# Altium footprint library miniquad_713_pcblib.PcbLib: 5 footprints
Each footprint in its own frame and in the unit in brackets; x right, y up, seen from the top. Pads: shape width x height; smd on the part's side, far side on the other; paste and mask are expansions set on the pad; w line width, h text height; cw(c..) or ccw(c..) is an arc to the next point about the centre after c.
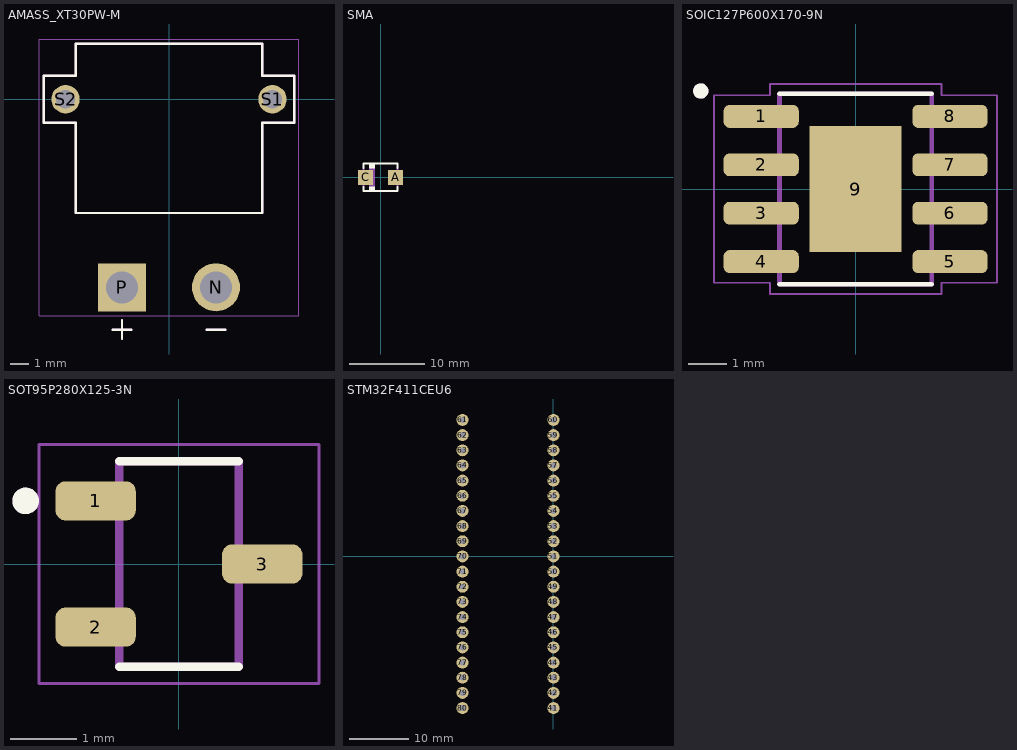
[diagram p0: the footprints below, top view; thin cyan lines are the x and y axes]

## AMASS_XT30PW-M [mm]
height 5
pads (4):
  round 2.55 hole 1.7: N(2.5,-10)
  rect 2.55x2.55 / inner round 2.55 / far side rect 2.55x2.55 hole 1.7: P(-2.5,-10)
  round 1.508 hole 1: S1(5.5,0) S2(-5.5,0)
Top Overlay:
  lines w0.127: -3,-12.25 -2,-12.25 ; -2.5,-12.75 -2.5,-11.75 ; 2,-12.25 3,-12.25 ; -6.65,-1.25 -6.65,1.25 -4.95,1.25 -4.95,2.95 4.95,2.95 4.95,1.25 6.65,1.25 6.65,-1.25 4.95,-1.25 4.95,-6.05 -4.95,-6.05 -4.95,-1.25 -6.65,-1.25
Mechanical 13:
  lines w0.127: -3,-12.25 -2,-12.25 ; -2.5,-12.75 -2.5,-11.75 ; 2,-12.25 3,-12.25 ; -6.65,-1.25 -6.65,1.25 -4.95,1.25 -4.95,2.95 4.95,2.95 4.95,1.25 6.65,1.25 6.65,-1.25 4.95,-1.25 4.95,-6.05 -4.95,-6.05 -4.95,-1.25 -6.65,-1.25
Mechanical 15:
  lines w0.05: -6.9,-11.525 6.9,-11.525 6.9,3.2 -6.9,3.2 -6.9,-11.525
3D body "step_temp.STEP": height 5, standoff -2, extent -6.65,-11 6.65,2.95

## SMA [mm]
pads (2):
  rect 2x2 smd: A(2,0) C(-2,0)
Top Overlay:
  region: -0.75,1.25 -1.5,1.25 -1.5,1.75 -0.75,1.75
  region: -0.75,-1.75 -1.5,-1.75 -1.5,-1.25 -0.75,-1.25
  lines w0.254: -2.25,-1.25 -2.25,-1.825 2.25,-1.825 ; -2.25,1.25 -2.25,1.825 2.25,1.825 2.25,1.25 ; 2.25,-1.839 cw(c19.548,-1.538) 2.25,-1.236
Mechanical 13:
  region: 2.8,-0.825 2.38,-0.825 2.38,0.8 2.8,0.8
  region: -2.38,-0.8 -2.8,-0.8 -2.8,0.8 -2.38,0.8
  region: -0.75,-1.75 -1.5,-1.75 -1.5,1.75 -0.75,1.75
  lines w0.254: -2.25,-1.25 -2.25,1.25 ; 2.25,-1.25 2.25,1.25
3D body "step_temp.STEP": height 2.4, standoff 0, extent -2.598,-1.302 2.598,1.302

## SOIC127P600X170-9N [mm]
pads (9):
  rrect50% 1.97x0.6 smd: 1(-2.475,1.905) 2(-2.475,0.635) 3(-2.475,-0.635) 4(-2.475,-1.905) 5(2.475,-1.905) 6(2.475,-0.635) 7(2.475,0.635) 8(2.475,1.905)
  rect 2.41x3.3 smd paste-3: 9(0,0)
Top Overlay:
  circle w0.2: c-4.06,2.57 r0.1
  lines w0.127: -2,-2.5 2,-2.5 ; -2,2.5 2,2.5
Top Paste:
  region: 0.935,-1.375 0.135,-1.375 0.135,-0.135 0.935,-0.135
  region: -0.135,0.135 -0.935,0.135 -0.935,1.375 -0.135,1.375
  region: -0.135,-1.375 -0.935,-1.375 -0.935,-0.135 -0.135,-0.135
  region: 0.935,0.135 0.135,0.135 0.135,1.375 0.935,1.375
Mechanical 13:
  circle w0.2: c-4.06,2.57 r0.1
  lines w0.127: -2,-2.5 2,-2.5 2,2.5 -2,2.5 -2,-2.5
Mechanical 15:
  lines w0.05: -3.71,-2.46 -3.71,2.46 -2.25,2.46 -2.25,2.75 2.25,2.75 2.25,2.46 3.71,2.46 3.71,-2.46 2.25,-2.46 2.25,-2.75 -2.25,-2.75 -2.25,-2.46 -3.71,-2.46
3D body "step_temp.STEP": height 1.7, standoff 0, extent -2.451,-2.997 2.451,2.997

## SOT95P280X125-3N [mm]
pads (3):
  rrect50% 1.21x0.59 smd: 1(-1.255,0.95) 2(-1.255,-0.95) 3(1.255,0)
Top Overlay:
  circle w0.2: c-2.31,0.95 r0.1
  lines w0.127: -0.9,-1.55 0.9,-1.55 ; -0.9,1.55 0.9,1.55
Mechanical 13:
  circle w0.2: c-2.31,0.95 r0.1
  lines w0.127: -0.9,-1.55 0.9,-1.55 0.9,1.55 -0.9,1.55 -0.9,-1.55
Mechanical 15:
  lines w0.05: -2.11,-1.8 2.11,-1.8 2.11,1.8 -2.11,1.8 -2.11,-1.8
3D body "step_temp.STEP": height 1.25, standoff 0, extent -1.4,-1.45 1.4,1.45

## STM32F411CEU6 [mm]
pads (40):
  round 2 hole 1: 41(0,-25.4) 42(0,-22.86) 43(0,-20.32) 44(0,-17.78) 45(0,-15.24) 46(0,-12.7) 47(0,-10.16) 48(0,-7.62) 49(0,-5.08) 50(0,-2.54) 51(0,0) 52(0,2.54) 53(0,5.08) 54(0,7.62) 55(0,10.16) 56(0,12.7) 57(0,15.24) 58(0,17.78) 59(0,20.32) 60(0,22.86) 61(-15.24,22.86) 62(-15.24,20.32) 63(-15.24,17.78) 64(-15.24,15.24) 65(-15.24,12.7) 66(-15.24,10.16) 67(-15.24,7.62) 68(-15.24,5.08) 69(-15.24,2.54) 70(-15.24,0) 71(-15.24,-2.54) 72(-15.24,-5.08) 73(-15.24,-7.62) 74(-15.24,-10.16) 75(-15.24,-12.7) 76(-15.24,-15.24) 77(-15.24,-17.78) 78(-15.24,-20.32) 79(-15.24,-22.86) 80(-15.24,-25.4)